# Altium schematic symbol library Schlib1.SchLib: 22 symbols
Pins are listed as number, name and electrical type; pins without a type are passive.

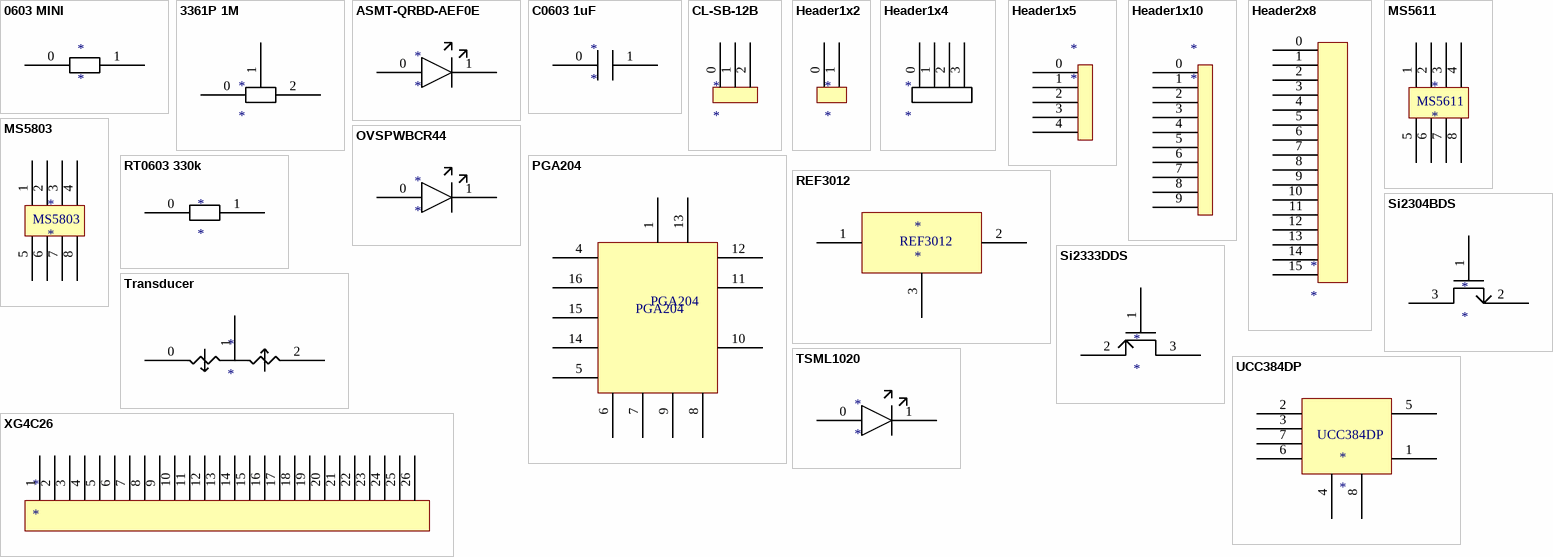
[diagram p0: symbols 0603 MINI to XG4C26]

## 0603 MINI
designator *
footprint 0603 MINI
pins: 0, 1

## 3361P 1M
designator *
footprint 3361P 1M
pins: 0, 1, 2

## ASMT-QRBD-AEF0E
designator *
footprint ASMT-QRBD-AEF0E
pins: 0, 1

## C0603 1uF
designator *
footprint C0603 1uF
pins: 0, 1

## CL-SB-12B
designator *
footprint CL-SB-12B
pins: 0, 1, 2

## Header1x2
designator *
footprint Header1x2
pins: 0, 1

## Header1x4
designator *
footprint Header1x4
pins: 0, 1, 2, 3

## Header1x5
designator *
footprint Header1x5
pins: 0, 1, 2, 3, 4

## Header1x10
designator *
footprint Header1x10
pins: 0, 1, 2, 3, 4, 5, 6, 7, 8, 9

## Header2x8
designator *
footprint Header2x8
pins: 0, 1, 2, 3, 4, 5, 6, 7, 8, 9, 10, 11, 12, 13, 14, 15

## MS5611
designator *
footprint MS5611
pins: 1, 2, 3, 4, 5, 6, 7, 8

## MS5803
designator *
footprint MS5803
pins: 1, 2, 3, 4, 5, 6, 7, 8

## OVSPWBCR44
designator *
footprint OVSPWBCR44
pins: 0, 1

## PGA204
designator PGA204  (value not drawn)
footprint PGA204
pins: 1, 4, 5, 6, 7, 8, 9, 10, 11, 12, 13, 14, 15, 16

## REF3012
designator *
footprint REF3012
pins: 1, 2, 3

## RT0603 330k
designator *
footprint RT0603 330k
pins: 0, 1

## Si2304BDS
designator *
footprint Si2304BDS
pins: 1, 2, 3

## Si2333DDS
designator *
footprint Si2333DDS
pins: 1, 2, 3

## Transducer
designator *
footprint Transducer
pins: 0, 1, 2

## TSML1020
designator *
footprint TSML1020
pins: 0, 1

## UCC384DP
designator *
footprint UCC384DP
pins: 1, 2, 3, 4, 5, 6, 7, 8

## XG4C26
designator *
footprint XG4C26
pins: 1, 2, 3, 4, 5, 6, 7, 8, 9, 10, 11, 12, 13, 14, 15, 16, 17, 18, 19, 20, 21, 22, 23, 24, 25, 26